# EAGLE library part CHROMA (library PixieChroma)
PIXIE CHROMA (R1) by LIXIE LABS (c) 2021 - CERN-OHL-W-2.0 LICENSE
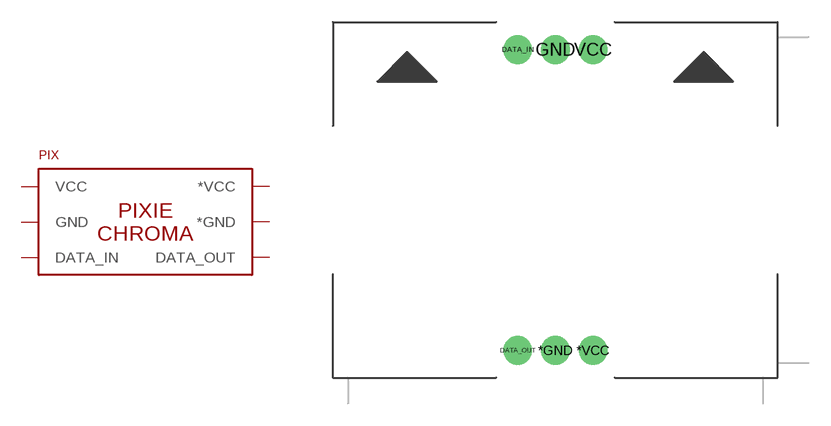
[diagram p0: symbol with the pads of CHROMA; footprint CHROMA]

Designator prefix PIX

## CHROMA  [CHROMA]
*GND  *GND  pwr
*VCC  *VCC  pwr
DATA_IN  DATA_IN  in
DATA_OUT  DATA_OUT  out
GND  GND  pwr
VCC  VCC  pwr

## Footprint CHROMA (pad centres in mm)
drill 1.02 pad 1.93: *GND 0,-10.15; *VCC 2.54,-10.15; DATA_IN -2.54,10.15; DATA_OUT -2.54,-10.15; GND 0,10.15; VCC 2.54,10.15